# Altium schematic symbol library FDN340P.SchLib: 1 symbol
Pins are listed as number, name and electrical type; pins without a type are passive.

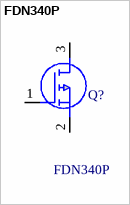
[diagram p0: symbol FDN340P]

## FDN340P
designator Q?
Trans MOSFET P-CH 20V 2A 3-Pin SuperSOT; Manufacturer_Name: onsemi; Geometry.Height: 1.12mm; Mouser Part Number: 512-FDN340P; Mouser Price/Stock: https://www.mouser.co.uk/ProductDetail/onsemi-Fairchild/FDN340P?qs=AMp2PTjoga9dhzFXRaqTZw%3D%3D; Manufacturer_Part_Number: FDN340P; Datasheet Link: https://www.onsemi.com/pub/Collateral/FDN340P-D.PDF
footprint SOT95P237X112-3N
pins: 1 G, 2 S, 3 D